# EAGLE library part AT82K629A (library usbkeypad)
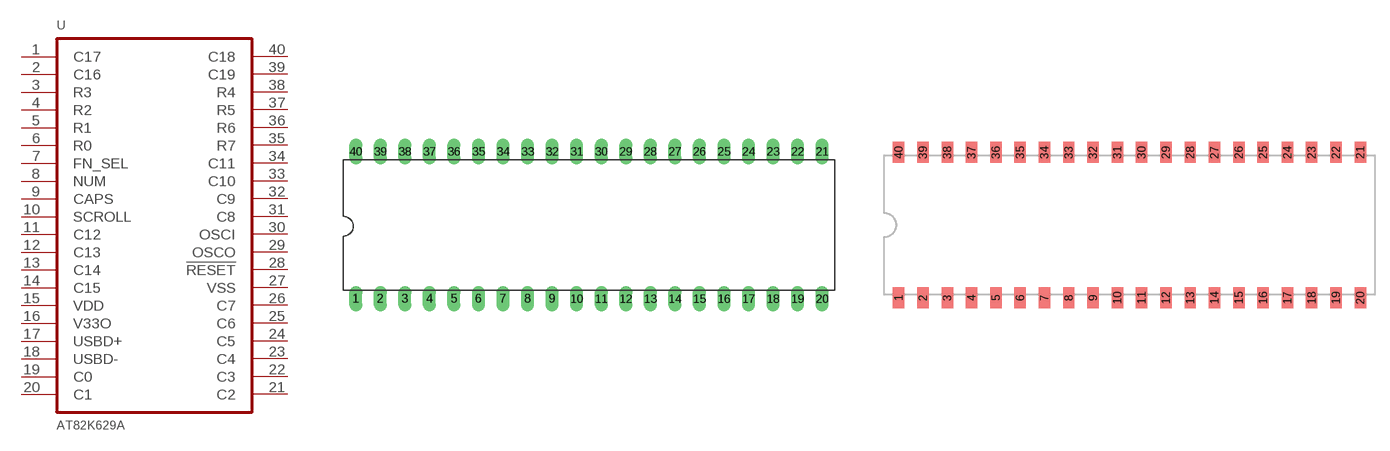
[diagram p0: symbol with the pads of DIL40; footprints DIL40, DIP40X]

Designator prefix U

## AT82K629AP  [DIL40]
1  C17
2  C16
3  R3
4  R2
5  R1
6  R0
7  FN_SEL
8  NUM
9  CAPS
10  SCROLL
11  C12
12  C13
13  C14
14  C15
15  VDD
16  V33O
17  USBD+
18  USBD-
19  C0
20  C1
21  C2
22  C3
23  C4
24  C5
25  C6
26  C7
27  VSS
28  !RESET
29  OSCO
30  OSCI
31  C8
32  C9
33  C10
34  C11
35  R7
36  R6
37  R5
38  R4
39  C19
40  C18

## AT82K629A  [DIP40X]
Pads as for DIL40

## Footprint DIL40 (pad centres in mm)
Dual In Line Package
drill 0.813 long: 1 -24.13,-7.62; 2 -21.59,-7.62; 3 -19.05,-7.62; 4 -16.51,-7.62; 5 -13.97,-7.62; 6 -11.43,-7.62; 7 -8.89,-7.62; 8 -6.35,-7.62; 9 -3.81,-7.62; 10 -1.27,-7.62; 11 1.27,-7.62; 12 3.81,-7.62; 13 6.35,-7.62; 14 8.89,-7.62; 15 11.43,-7.62; 16 13.97,-7.62; 17 16.51,-7.62; 18 19.05,-7.62; 19 21.59,-7.62; 20 24.13,-7.62; 21 24.13,7.62; 22 21.59,7.62; 23 19.05,7.62; 24 16.51,7.62; 25 13.97,7.62; 26 11.43,7.62; 27 8.89,7.62; 28 6.35,7.62; 29 3.81,7.62; 30 1.27,7.62; 31 -1.27,7.62; 32 -3.81,7.62; 33 -6.35,7.62; 34 -8.89,7.62; 35 -11.43,7.62; 36 -13.97,7.62; 37 -16.51,7.62; 38 -19.05,7.62; 39 -21.59,7.62; 40 -24.13,7.62

## Footprint DIP40X (pad centres in mm)
SMD DIL40X dual in line package, body 13.52 mm
smd 1.2 x 2.2: 1 -24.13,-7.6; 2 -21.59,-7.6; 3 -19.05,-7.6; 4 -16.51,-7.6; 5 -13.97,-7.6; 6 -11.43,-7.6; 7 -8.89,-7.6; 8 -6.35,-7.6; 9 -3.81,-7.6; 10 -1.27,-7.6; 11 1.27,-7.6; 12 3.81,-7.6; 13 6.35,-7.6; 14 8.89,-7.6; 15 11.43,-7.6; 16 13.97,-7.6; 17 16.51,-7.6; 18 19.05,-7.6; 19 21.59,-7.6; 20 24.13,-7.6; 21 24.13,7.6; 22 21.59,7.6; 23 19.05,7.6; 24 16.51,7.6; 25 13.97,7.6; 26 11.43,7.6; 27 8.89,7.6; 28 6.35,7.6; 29 3.81,7.6; 30 1.27,7.6; 31 -1.27,7.6; 32 -3.81,7.6; 33 -6.35,7.6; 34 -8.89,7.6; 35 -11.43,7.6; 36 -13.97,7.6; 37 -16.51,7.6; 38 -19.05,7.6; 39 -21.59,7.6; 40 -24.13,7.6